# Altium footprint library WE-VD.PcbLib: 60 footprints (part 4 of 4)
Each footprint in its own frame and in the unit in brackets; x right, y up, seen from the top. Pads: shape width x height; smd on the part's side, far side on the other; paste and mask are expansions set on the pad; w line width, h text height; cw(c..) or ccw(c..) is an arc to the next point about the centre after c.
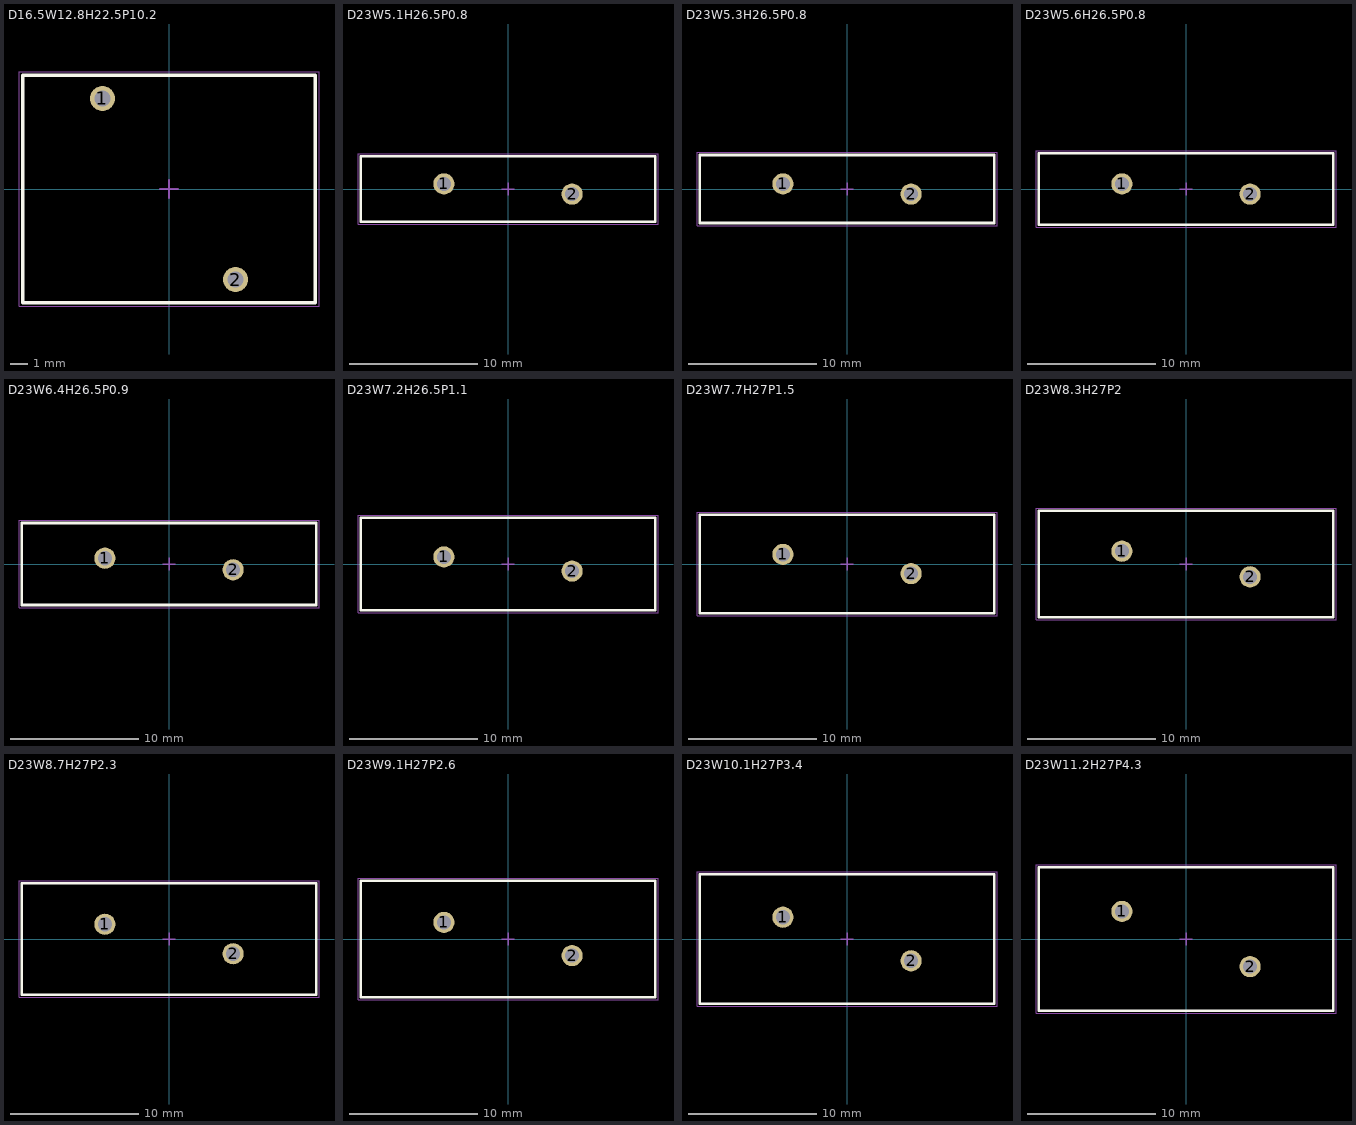
[diagram p3: the footprints below, top view; thin cyan lines are the x and y axes]

## D16.5W12.8H22.5P10.2 [mm] "Disk Varistor, Diameter 16.5mm, Width 12.8mm"
height 22.5
pads (2):
  round 1.4 hole 0.9: 1(-3.75,5.1) 2(3.75,-5.1)
Top Overlay:
  lines w0.2: -8.25,-6.4 -8.25,6.4 8.25,6.4 8.25,-6.4 -8.25,-6.4
Top Assembly:
  lines w0.1: -8.25,-6.4 8.25,-6.4 8.25,6.4 -8.25,6.4 -8.25,-6.4
Top Designator:
  text ".Designator" at -3.647,-0.357 h1
Top Courtyard:
  lines w0.05: -8.45,-6.6 -8.45,6.6 8.45,6.6 8.45,-6.6 -8.45,-6.6
Top Component Center:
  lines w0.1: -0.5,0 0.5,0 ; 0,-0.5 0,0.5
3D body "820x41021.stp": height 17.7, standoff -22.3, extent -7.5,-6 7.5,6

## D23W5.1H26.5P0.8 [mm] "Disk Varistor, Diameter 23mm, Width 5.1mm"
height 26.5
pads (2):
  round 1.65 hole 1.1: 1(-5,0.4) 2(5,-0.4)
Top Overlay:
  lines w0.2: -11.5,-2.55 -11.5,2.55 11.5,2.55 11.5,-2.55 -11.5,-2.55
Top Assembly:
  lines w0.1: -11.5,-2.55 11.5,-2.55 11.5,2.55 -11.5,2.55 -11.5,-2.55
Top Designator:
  text ".Designator" at -3.647,-0.357 h1
Top Courtyard:
  lines w0.05: -11.7,-2.75 -11.7,2.75 11.7,2.75 11.7,-2.75 -11.7,-2.75
Top Component Center:
  lines w0.1: -0.5,0 0.5,0 ; 0,-0.5 0,0.5
3D body "820x27501.stp": height 24, standoff -22.4, extent -10.694,-1.95 10.694,1.95

## D23W5.3H26.5P0.8 [mm] "Disk Varistor, Diameter 23mm, Width 5.3mm"
height 26.5
pads (2):
  round 1.65 hole 1.1: 1(-5,0.4) 2(5,-0.4)
Top Overlay:
  lines w0.2: -11.5,-2.65 11.5,-2.65 11.5,2.65 -11.5,2.65 -11.5,-2.65
Top Assembly:
  lines w0.1: -11.5,-2.65 -11.5,2.65 11.5,2.65 11.5,-2.65 -11.5,-2.65
Top Designator:
  text ".Designator" at -3.647,-0.357 h1
Top Courtyard:
  lines w0.05: -11.7,-2.85 11.7,-2.85 11.7,2.85 -11.7,2.85 -11.7,-2.85
Top Component Center:
  lines w0.1: -0.5,0 0.5,0 ; 0,-0.5 0,0.5
3D body "820x21311.stp": height 24, standoff -22.4, extent -10.694,-1.95 10.694,1.95

## D23W5.6H26.5P0.8 [mm] "Disk Varistor, Diameter 23mm, Width 5.6mm"
height 26.5
pads (2):
  round 1.65 hole 1.1: 1(-5,0.4) 2(5,-0.4)
Top Overlay:
  lines w0.2: -11.5,-2.8 11.5,-2.8 11.5,2.8 -11.5,2.8 -11.5,-2.8
Top Assembly:
  lines w0.1: -11.5,-2.8 -11.5,2.8 11.5,2.8 11.5,-2.8 -11.5,-2.8
Top Designator:
  text ".Designator" at -3.647,-0.357 h1
Top Courtyard:
  lines w0.05: -11.7,-3 11.7,-3 11.7,3 -11.7,3 -11.7,-3
Top Component Center:
  lines w0.1: -0.5,0 0.5,0 ; 0,-0.5 0,0.5
3D body "820x23006.stp": height 24, standoff -22.4, extent -10.7,-2.15 10.7,2.15

## D23W6.4H26.5P0.9 [mm] "Disk Varistor, Diameter 23mm, Width 6.4mm"
height 26.5
pads (2):
  round 1.65 hole 1.1: 1(-5,0.45) 2(5,-0.45)
Top Overlay:
  lines w0.2: -11.5,-3.2 -11.5,3.2 11.5,3.2 11.5,-3.2 -11.5,-3.2
Top Assembly:
  lines w0.1: -11.5,-3.2 11.5,-3.2 11.5,3.2 -11.5,3.2 -11.5,-3.2
Top Designator:
  text ".Designator" at -3.647,-0.357 h1
Top Courtyard:
  lines w0.05: -11.7,-3.4 -11.7,3.4 11.7,3.4 11.7,-3.4 -11.7,-3.4
Top Component Center:
  lines w0.1: -0.5,0 0.5,0 ; 0,-0.5 0,0.5
3D body "820x22511.stp": height 24, standoff -22.4, extent -10.694,-2.4 10.694,2.4

## D23W7.2H26.5P1.1 [mm] "Disk Varistor, Diameter 23mm, Width 7.2mm"
height 26.5
pads (2):
  round 1.65 hole 1.1: 1(-5,0.55) 2(5,-0.55)
Top Overlay:
  lines w0.2: -11.5,-3.6 11.5,-3.6 11.5,3.6 -11.5,3.6 -11.5,-3.6
Top Assembly:
  lines w0.1: -11.5,-3.6 -11.5,3.6 11.5,3.6 11.5,-3.6 -11.5,-3.6
Top Designator:
  text ".Designator" at -3.647,-0.357 h1
Top Courtyard:
  lines w0.05: -11.7,-3.8 11.7,-3.8 11.7,3.8 -11.7,3.8 -11.7,-3.8
Top Component Center:
  lines w0.1: -0.5,0 0.5,0 ; 0,-0.5 0,0.5
3D body "820x22711.stp": height 24, standoff -22.4, extent -10.694,-2.5 10.694,2.5

## D23W7.7H27P1.5 [mm] "Disk Varistor, Diameter 23mm, Width 7.7mm"
height 27
pads (2):
  round 1.65 hole 1.1: 1(-5,0.75) 2(5,-0.75)
Top Overlay:
  lines w0.2: -11.5,-3.85 -11.5,3.85 11.5,3.85 11.5,-3.85 -11.5,-3.85
Top Assembly:
  lines w0.1: -11.5,-3.85 11.5,-3.85 11.5,3.85 -11.5,3.85 -11.5,-3.85
Top Designator:
  text ".Designator" at -3.647,-0.357 h1
Top Courtyard:
  lines w0.05: -11.7,-4.05 -11.7,4.05 11.7,4.05 11.7,-4.05 -11.7,-4.05
Top Component Center:
  lines w0.1: -0.5,0 0.5,0 ; 0,-0.5 0,0.5
3D body "820x23211.stp": height 24, standoff -22.4, extent -10.694,-2.6 10.694,2.6

## D23W8.3H27P2 [mm] "Disk Varistor, Diameter 23mm, Width 8.3mm"
height 27
pads (2):
  round 1.65 hole 1.1: 1(-5,1) 2(5,-1)
Top Overlay:
  lines w0.2: -11.5,-4.15 11.5,-4.15 11.5,4.15 -11.5,4.15 -11.5,-4.15
Top Assembly:
  lines w0.1: -11.5,-4.15 -11.5,4.15 11.5,4.15 11.5,-4.15 -11.5,-4.15
Top Designator:
  text ".Designator" at -3.647,-0.357 h1
Top Courtyard:
  lines w0.05: -11.7,-4.35 11.7,-4.35 11.7,4.35 -11.7,4.35 -11.7,-4.35
Top Component Center:
  lines w0.1: -0.5,0 0.5,0 ; 0,-0.5 0,0.5
3D body "820x23811x.stp": height 24, standoff -22.4, extent -10.694,-2.95 10.694,2.95

## D23W8.7H27P2.3 [mm] "Disk Varistor, Diameter 23mm, Width 8.7mm"
height 27
pads (2):
  round 1.65 hole 1.1: 1(-5,1.15) 2(5,-1.15)
Top Overlay:
  lines w0.2: -11.5,-4.35 -11.5,4.35 11.5,4.35 11.5,-4.35 -11.5,-4.35
Top Assembly:
  lines w0.1: -11.5,-4.35 11.5,-4.35 11.5,4.35 -11.5,4.35 -11.5,-4.35
Top Designator:
  text ".Designator" at -3.647,-0.357 h1
Top Courtyard:
  lines w0.05: -11.7,-4.55 -11.7,4.55 11.7,4.55 11.7,-4.55 -11.7,-4.55
Top Component Center:
  lines w0.1: -0.5,0 0.5,0 ; 0,-0.5 0,0.5
3D body "820x24211x.stp": height 24, standoff -22.4, extent -10.694,-3.1 10.694,3.1

## D23W9.1H27P2.6 [mm] "Disk Varistor, Diameter 23mm, Width 9.1mm"
height 27
pads (2):
  round 1.65 hole 1.1: 1(-5,1.3) 2(5,-1.3)
Top Overlay:
  lines w0.2: -11.5,-4.55 11.5,-4.55 11.5,4.55 -11.5,4.55 -11.5,-4.55
Top Assembly:
  lines w0.1: -11.5,-4.55 -11.5,4.55 11.5,4.55 11.5,-4.55 -11.5,-4.55
Top Designator:
  text ".Designator" at -3.647,-0.357 h1
Top Courtyard:
  lines w0.05: -11.7,-4.75 11.7,-4.75 11.7,4.75 -11.7,4.75 -11.7,-4.75
Top Component Center:
  lines w0.1: -0.5,0 0.5,0 ; 0,-0.5 0,0.5
3D body "820x24611.stp": height 24, standoff -22.4, extent -10.694,-3.25 10.694,3.25

## D23W10.1H27P3.4 [mm] "Disk Varistor, Diameter 23mm, Width 10.1mm"
height 27
pads (2):
  round 1.65 hole 1.1: 1(-5,1.7) 2(5,-1.7)
Top Overlay:
  lines w0.2: -11.5,-5.05 -11.5,5.05 11.5,5.05 11.5,-5.05 -11.5,-5.05
Top Assembly:
  lines w0.1: -11.5,-5.05 11.5,-5.05 11.5,5.05 -11.5,5.05 -11.5,-5.05
Top Designator:
  text ".Designator" at -3.647,-0.357 h1
Top Courtyard:
  lines w0.05: -11.7,-5.25 -11.7,5.25 11.7,5.25 11.7,-5.25 -11.7,-5.25
Top Component Center:
  lines w0.1: -0.5,0 0.5,0 ; 0,-0.5 0,0.5
3D body "820x25511.stp": height 24, standoff -22.4, extent -10.694,-3.65 10.694,3.65

## D23W11.2H27P4.3 [mm] "Disk Varistor, Diameter 23mm, Width 11.2mm"
height 27
pads (2):
  round 1.65 hole 1.1: 1(-5,2.15) 2(5,-2.15)
Top Overlay:
  lines w0.2: -11.5,-5.6 -11.5,5.6 11.5,5.6 11.5,-5.6 -11.5,-5.6
Top Assembly:
  lines w0.1: -11.5,-5.6 11.5,-5.6 11.5,5.6 -11.5,5.6 -11.5,-5.6
Top Designator:
  text ".Designator" at -3.647,-0.357 h1
Top Courtyard:
  lines w0.05: -11.7,-5.8 -11.7,5.8 11.7,5.8 11.7,-5.8 -11.7,-5.8
Top Component Center:
  lines w0.1: -0.5,0 0.5,0 ; 0,-0.5 0,0.5
3D body "820x26811.stp": height 24, standoff -22.4, extent -10.694,-4.1 10.694,4.1